# Altium integrated library Tantalum Capacitors.IntLib: 8 symbols
Pins are listed as number, name and electrical type; pins without a type are passive.

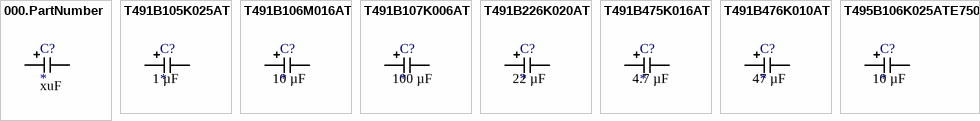
[diagram p0: symbols 000.PartNumber to T495B106K025ATE750]

## 000.PartNumber
designator C?  Capacitance: xuF
Digikey Description; Manufacturer: *; Series: *; Package: *; Tolerance: *; Type: *; ESR (Equivalent Series Resistance): *; Operating Temperature: *; Lifetime @ Temp.: *; Mounting Type: *; Package / Case: *; Size / Dimension: *; Height - Seated (Max): *; Lead Spacing: *; Manufacturer Size Code: *; Ratings: *; Features: *; Failure Rate: *; Voltage - Rated: *; Ozdisan Link: *; Digikey Link: *; Farnell TR Link: *; Mouser Link: *
pins: 1, 2

## T491B105K025AT
designator C?  Capacitance: 1 µF
CAP TANT 1UF 10% 25V 1411; Manufacturer: KEMET; Manufacturer Size Code: B; Type: Molded; ESR (Equivalent Series Resistance): 5 Ohm; Lifetime @ Temp.: 2000 Hrs @ 125°C; Series: T491; Package: Tape & Reel (TR); Tolerance: ±10%; Operating Temperature: -55°C ~ 125°C; Mounting Type: Surface Mount; Package / Case: 1411 (3528 Metric); Size / Dimension: 0.138" L x 0.110" W (3.50mm x 2.80mm); Height - Seated (Max): 0.083" (2.10mm); Lead Spacing: -; Ratings: -; Features: General Purpose; Failure Rate: -; Voltage - Rated: 25 V; Ozdisan Link: https://ozdisan.com/pasif-komponentler/kondansatorler/tantal-kondansatorler/T491B105K025AT; Digikey Link: https://www.digikey.com/en/products/detail/kemet/T491B105K025AT/3724810; Farnell TR Link: https://tr.farnell.com/kemet/t491b105k025at/cap-1-f-25v-10/dp/2321211?st=t491b105k025at; Mouser Link: https://www.mouser.com.tr/ProductDetail/KEMET/T491B105K025AT?qs=MSnLt6VizIVP1rbCgJ%252B8hw%3D%3D
footprint KEMET_CAP_TAN-B
pins: 1, 2

## T491B106M016AT
designator C?  Capacitance: 10 µF
CAP TANT 10UF 20% 16V 1411; Manufacturer: KEMET; Manufacturer Size Code: B; Type: Molded; ESR (Equivalent Series Resistance): 2.5 Ohm; Lifetime @ Temp.: 2000 Hrs @ 125°C; Series: T491; Package: Tape & Reel (TR); Tolerance: ±20%; Operating Temperature: -55°C ~ 125°C; Mounting Type: Surface Mount; Package / Case: 1411 (3528 Metric); Size / Dimension: 0.138" L x 0.110" W (3.50mm x 2.80mm); Height - Seated (Max): 0.083" (2.10mm); Lead Spacing: -; Ratings: -; Features: General Purpose; Failure Rate: -; Voltage - Rated: 16 V; Ozdisan Link: https://ozdisan.com/pasif-komponentler/kondansatorler/tantal-kondansatorler/T491B106M016AT; Digikey Link: https://www.digikey.com/en/products/detail/kemet/T495B475M025ZTE750/8764094; Farnell TR Link: https://tr.farnell.com/kemet/t491b106m016at/cap-10-f-16v-20/dp/2462772?st=t491b106m016at; Mouser Link: https://www.mouser.com.tr/ProductDetail/KEMET/T491B106M016AT?qs=WydH9nGI6cAnkEyQJLjSzA%3D%3D
footprint KEMET_CAP_TAN-B
pins: 1, 2

## T491B107K006AT
designator C?  Capacitance: 100 µF
CAP TANT 100UF 10% 6.3V 1411; Manufacturer: KEMET; Manufacturer Size Code: B; Type: Molded; ESR (Equivalent Series Resistance): 3 Ohm; Lifetime @ Temp.: 2000 Hrs @ 125°C; Series: T491; Package: Tape & Reel (TR); Tolerance: ±10%; Operating Temperature: -55°C ~ 125°C; Mounting Type: Surface Mount; Package / Case: 1411 (3528 Metric); Size / Dimension: 0.138" L x 0.110" W (3.50mm x 2.80mm); Height - Seated (Max): 0.083" (2.10mm); Lead Spacing: -; Ratings: -; Features: General Purpose; Failure Rate: -; Voltage - Rated: 6.3 V; Ozdisan Link: https://ozdisan.com/pasif-komponentler/kondansatorler/tantal-kondansatorler/T491B107K006AT; Digikey Link: https://www.digikey.com/en/products/detail/kemet/T491B107K006AT/2336227; Farnell TR Link: https://tr.farnell.com/kemet/t491b107k006at/cap-100-f-6-3v-10-smd/dp/1457438?st=t491b107k006at; Mouser Link: https://www.mouser.com.tr/ProductDetail/KEMET/T491B107K006AT?qs=0CYHZL%252BGkuR7Fv7IsnkA2g%3D%3D
footprint KEMET_CAP_TAN-B
pins: 1, 2

## T491B226K020AT
designator C?  Capacitance: 22 µF
CAP TANT 22UF 10% 20V 1411; Manufacturer: KEMET; Manufacturer Size Code: B; Type: Molded; ESR (Equivalent Series Resistance): 4 Ohm; Lifetime @ Temp.: 2000 Hrs @ 125°C; Series: T491; Package: Tape & Reel (TR); Tolerance: ±10%; Operating Temperature: -55°C ~ 125°C; Mounting Type: Surface Mount; Package / Case: 1411 (3528 Metric); Size / Dimension: 0.138" L x 0.110" W (3.50mm x 2.80mm); Height - Seated (Max): 0.083" (2.10mm); Lead Spacing: -; Ratings: -; Features: General Purpose; Failure Rate: -; Voltage - Rated: 20 V; Ozdisan Link: https://ozdisan.com/pasif-komponentler/kondansatorler/tantal-kondansatorler/T491B226K020AT; Digikey Link: https://www.digikey.com/en/products/detail/kemet/T491B226K020AT/1842086; Farnell TR Link: https://tr.farnell.com/kemet/t491b226k020at/cap-22-f-20v-10/dp/2321214?st=t491b226k020at; Mouser Link: https://www.mouser.com.tr/ProductDetail/KEMET/T491B226K020AT?qs=2QcrrtqkWlnFmgDgM5wdlA%3D%3D
footprint KEMET_CAP_TAN-B
pins: 1, 2

## T491B475K016AT
designator C?  Capacitance: 4.7 µF
CAP TANT 4.7UF 10% 16V 1411; Manufacturer: KEMET; Manufacturer Size Code: B; Type: Molded; ESR (Equivalent Series Resistance): 3.5 Ohm; Lifetime @ Temp.: 2000 Hrs @ 125°C; Series: T491; Package: Tape & Reel (TR); Tolerance: ±10%; Operating Temperature: -55°C ~ 125°C; Mounting Type: Surface Mount; Package / Case: 1411 (3528 Metric); Size / Dimension: 0.138" L x 0.110" W (3.50mm x 2.80mm); Height - Seated (Max): 0.083" (2.10mm); Lead Spacing: -; Ratings: -; Features: General Purpose; Failure Rate: -; Voltage - Rated: 16 V; Ozdisan Link: https://ozdisan.com/pasif-komponentler/kondansatorler/tantal-kondansatorler/T491B475K016AT; Digikey Link: https://www.digikey.com/en/products/detail/kemet/T491B475K016AT/818582; Farnell TR Link: https://tr.farnell.com/kemet/t491b475k016at/cap-4-7-f-16v-10-smd/dp/1457453?st=t491b475k016at; Mouser Link: https://www.mouser.com.tr/ProductDetail/KEMET/T491B475K016AT?qs=pWsseJt92L15yATvg%252BRzxw%3D%3D
footprint KEMET_CAP_TAN-B
pins: 1, 2

## T491B476K010AT
designator C?  Capacitance: 47 µF
CAP TANT 47UF 10% 10V 1411; Manufacturer: KEMET; Manufacturer Size Code: B; Type: Molded; ESR (Equivalent Series Resistance): 1 Ohm; Lifetime @ Temp.: 2000 Hrs @ 125°C; Series: T491; Package: Tape & Reel (TR); Tolerance: ±10%; Operating Temperature: -55°C ~ 125°C; Mounting Type: Surface Mount; Package / Case: 1411 (3528 Metric); Size / Dimension: 0.138" L x 0.110" W (3.50mm x 2.80mm); Height - Seated (Max): 0.083" (2.10mm); Lead Spacing: -; Ratings: -; Features: General Purpose; Failure Rate: -; Voltage - Rated: 10 V; Ozdisan Link: https://ozdisan.com/pasif-komponentler/kondansatorler/tantal-kondansatorler/T491B476K010AT; Digikey Link: https://www.digikey.com/en/products/detail/kemet/T491B476K010AT/3724805; Farnell TR Link: https://tr.farnell.com/kemet/t491b476k010at/cap-47-f-10v-10-smd/dp/1457458?st=t491b476k010at; Mouser Link: https://www.mouser.com.tr/ProductDetail/KEMET/T491B476K010AT?qs=fiKTNuk%252BZgU5wVY0B6qHug%3D%3D
footprint KEMET_CAP_TAN-B
pins: 1, 2

## T495B106K025ATE750
designator C?  Capacitance: 10 µF
CAP TANT 10UF 10% 25V 1411; Manufacturer: KEMET; Manufacturer Size Code: B; Type: Molded; ESR (Equivalent Series Resistance): 750mOhm @ 100kHz; Lifetime @ Temp.: 2000 Hrs @ 125°C; Series: T495; Package: Tape & Reel (TR); Tolerance: ±10%; Operating Temperature: -55°C ~ 125°C; Mounting Type: Surface Mount; Package / Case: 1411 (3528 Metric); Size / Dimension: 0.138" L x 0.110" W (3.50mm x 2.80mm); Height - Seated (Max): 0.083" (2.10mm); Lead Spacing: -; Ratings: -; Features: General Purpose; Failure Rate: -; Voltage - Rated: 25 V; Ozdisan Link: https://ozdisan.com/pasif-komponentler/kondansatorler/tantal-kondansatorler/T495B106K025ATE750; Digikey Link: https://www.digikey.com/en/products/detail/kemet/T495B106K025ATE750/9460140?s=N4IgTCBcDaICoBYCcBWAQgRgAwDYDSWYKAgnAKIDsKWAOgC4gC6AvkA; Farnell TR Link: https://tr.farnell.com/kemet/t495b106k025ate750/cap-10-f-25v-10/dp/2470989?st=t495b106k025ate750; Mouser Link: https://www.mouser.com.tr/ProductDetail/KEMET/T495B106K025ATE750?qs=%2Fha2pyFadujnynArK764XfRSEZHP8FOA9PmCniReQrHlQCqso5Ww5Xi6W8phZFoH
footprint KEMET_CAP_TAN-B
pins: 1, 2